# EAGLE library part PIXHAWK2_LT3469 (library PX4FMUv2.4)
LT3469 Piezo microactuator driver with boost regulator
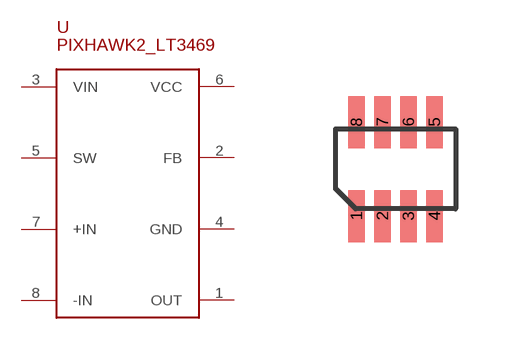
[diagram p13: symbol with the pads of PIXHAWK2_SOT23-8; footprint PIXHAWK2_SOT23-8]

Designator prefix U

## PIXHAWK2_LT3469  [PIXHAWK2_SOT23-8]
1  OUT  out
2  FB
3  VIN  pwr
4  GND  pwr
5  SW  pas
6  VCC
7  +IN  in
8  -IN  in

## Footprint PIXHAWK2_SOT23-8 (pad centres in mm)
SOT23-8
smd 0.42 x 1.3: 1 -0.975,-1.175; 2 -0.325,-1.175; 3 0.325,-1.175; 4 0.975,-1.175; 5 0.975,1.175; 6 0.325,1.175; 7 -0.325,1.175; 8 -0.975,1.175